# EAGLE library part ILI9341 (library teploblinEkran)
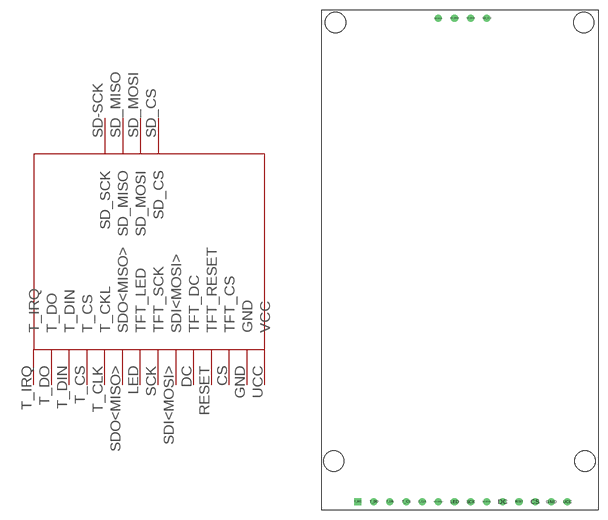
[diagram p1: symbol with the pads of SKR1; footprint SKR1]

Designator prefix -

## ILI9341  [SKR1]
CS  TFT_CS
DC  TFT_DC
GND  GND
LED  TFT_LED
RESET  TFT_RESET
SCK  TFT_SCK
SD-SCK  SD_SCK
SD_CS  SD_CS
SD_MISO  SD_MISO
SD_MOSI  SD_MOSI
SDI<MOSI>  SDI<MOSI>
SDO<MISO>  SDO<MISO>
T_CLK  T_CKL
T_CS  T_CS
T_DIN  T_DIN
T_DO  T_DO
T_IRQ  T_IRQ
UCC  VCC

## Footprint SKR1 (pad centres in mm)
drill 0.6: CS -5.08,0; DC -10.16,0; GND -2.54,0; LED -17.78,0; RESET -7.62,0; SCK -15.24,0; SD-SCK -20.32,76.2; SD_CS -12.7,76.2; SD_MISO -17.78,76.2; SD_MOSI -15.24,76.2; SDI<MOSI> -12.7,0; SDO<MISO> -20.32,0; T_CLK -22.86,0; T_CS -25.4,0; T_DIN -27.94,0; T_DO -30.48,0; UCC 0,0
drill 0.6 square: T_IRQ -33.02,0
hole 3.2 at -36.525,75.54
hole 3.2 at 2.565,75.54
hole 3.2 at 2.76,6.44
hole 3.2 at -36.8,6.44